# Altium footprint library Power.PcbLib: 9 footprints
Each footprint in its own frame and in the unit in brackets; x right, y up, seen from the top. Pads: shape width x height; smd on the part's side, far side on the other; paste and mask are expansions set on the pad; w line width, h text height; cw(c..) or ccw(c..) is an arc to the next point about the centre after c.
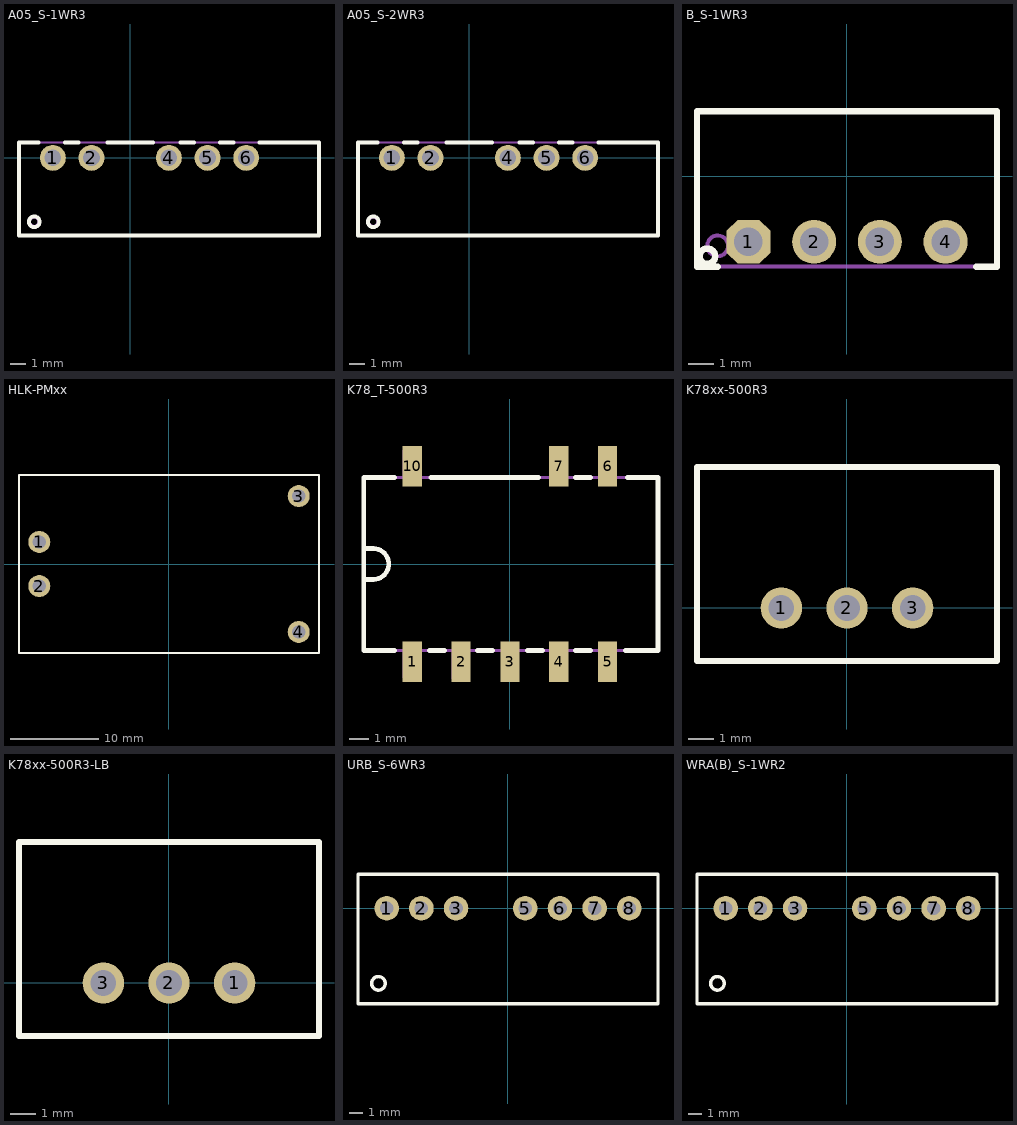
[diagram p0: the footprints below, top view; thin cyan lines are the x and y axes]

## A05_S-1WR3 [mm]
pads (5):
  round 1.7 hole 1.1: 1(-5.08,0) 2(-2.54,0) 4(2.54,0) 5(5.08,0) 6(7.62,0)
Top Overlay:
  circle w0.25: c-6.3,-4.2 r0.35
  lines w0.25: -6,1 -7.3,1 -7.3,-5.1 12.4,-5.1 12.4,1 8.5,1 ; -4.3,1 -3.4,1 ; -1.5,1 1.5,1 ; 3.305,1.004 4.205,1.004 ; 5.905,1.004 6.805,1.004
Top Assembly:
  circle w0.15: c-6.3,-4.2 r0.283
  lines w0.15: -7.3,-5.1 12.4,-5.1 12.4,1 -7.3,1 -7.3,-5.1
3D body "A05_S-1WR3.stp": height 10.16, standoff -4.1, extent -7.285,-5.08 12.365,0.92

## A05_S-2WR3 [mm]
pads (5):
  round 1.7 hole 1.1: 1(-5.08,0) 2(-2.54,0) 4(2.54,0) 5(5.08,0) 6(7.62,0)
Top Overlay:
  circle w0.25: c-6.3,-4.2 r0.35
  lines w0.25: -6,1 -7.3,1 -7.3,-5.1 12.4,-5.1 12.4,1 8.5,1 ; -4.3,1 -3.4,1 ; -1.5,1 1.5,1 ; 3.305,1.004 4.205,1.004 ; 5.905,1.004 6.805,1.004
Top Assembly:
  circle w0.15: c-6.3,-4.2 r0.283
  lines w0.15: -7.3,-5.1 12.4,-5.1 12.4,1 -7.3,1 -7.3,-5.1
3D body "A_S-2WR3.stp": height 10.16, standoff -4.1, extent -7.285,-5.08 12.365,0.92

## B_S-1WR3 [mm]
pads (4):
  oct 1.7x1.7 hole 1.1: 1(-3.81,-2.54)
  round 1.7 hole 1.1: 2(-1.27,-2.54) 3(1.27,-2.54) 4(3.81,-2.54)
Top Overlay:
  circle w0.25: c-5.4,-3.1 r0.3
  lines w0.25: -5,-3.5 -5.8,-3.5 -5.8,2.5 5.8,2.5 5.8,-3.5 5,-3.5
Top Assembly:
  circle w0.15: c-5,-2.7 r0.4
  lines w0.15: -5.8,-3.5 5.8,-3.5 5.8,2.5 -5.8,2.5 -5.8,-3.5
3D body "B_S-1WR3.stp": height 10.2, standoff -4.06, extent -5.8,-3.521 5.8,2.479

## HLK-PMxx [mm]
pads (4):
  round 2.5 hole 1.5: 1(-14.7,2.5) 2(-14.7,-2.5) 3(14.7,7.7) 4(14.7,-7.7)
Top Overlay:
  lines w0.25: -17,-10.1 17,-10.1 17,10.1 -17,10.1 -17,-10.1
Top Assembly:
  lines w0.15: -17,-10.1 17,-10.1 17,10.1 -17,10.1 -17,-10.1
3D body "HLK-PM01.STEP": height 15.2, standoff -4.9, extent -17,-10.1 17,10.1

## K78_T-500R3 [mm]
pads (8):
  rect 1x2.1 smd: 1(-5.08,-5.08) 2(-2.54,-5.08) 3(0,-5.08) 4(2.54,-5.08) 5(5.08,-5.08) 6(5.08,5.08) 7(2.54,5.08) 10(-5.08,5.08)
Top Overlay:
  lines w0.25: -7.6,-0.8 -7.1,-0.8 ccw(c-7.1,0) -7.1,0.8 -7.6,0.8 ; -6,-4.5 -7.6,-4.5 -7.6,4.5 -6,4.5 ; -4.2,-4.5 -3.4,-4.5 ; -4.1,4.5 1.5,4.5 ; -1.7,-4.5 -0.9,-4.5 ; 0.9,-4.5 1.7,-4.5 ; 3.4,-4.5 4.2,-4.5 ; 3.4,4.5 4.2,4.5 ; 6,-4.5 7.7,-4.5 7.7,4.5 6.1,4.5
Top Assembly:
  lines w0.15: -7.6,-0.8 -7.1,-0.8 ccw(c-7.1,0) -7.1,0.8 -7.6,0.8 ; -7.6,-4.5 -7.6,4.5 7.7,4.5 7.7,-4.5 -7.6,-4.5 ; -5.5,-5.9 -4.7,-5.9 -4.7,-4.5 -5.5,-4.5 -5.5,-5.9 ; -5.5,4.5 -4.7,4.5 -4.7,5.9 -5.5,5.9 -5.5,4.5 ; -2.961,-5.947 -2.161,-5.947 -2.161,-4.5 -2.961,-4.5 -2.961,-5.947 ; -0.4,-5.9 0.4,-5.9 0.4,-4.5 -0.4,-4.5 -0.4,-5.9 ; 2.1,-5.9 2.9,-5.9 2.9,-4.5 2.1,-4.5 2.1,-5.9 ; 2.1,4.5 2.9,4.5 2.9,5.9 2.1,5.9 2.1,4.5 ; 4.7,-5.9 5.5,-5.9 5.5,-4.5 4.7,-4.5 4.7,-5.9 ; 4.7,4.5 5.5,4.5 5.5,5.9 4.7,5.9 4.7,4.5
3D body "K78_T-500R3.stp": height 8.25, standoff 0, extent -7.62,-5.7 7.62,5.7

## K78xx-500R3 [mm]
pads (3):
  round 1.6 hole 1: 1(-2.54,0) 2(0,0) 3(2.54,0)
Top Overlay:
  lines w0.25: -5.8,-2.05 5.8,-2.05 5.8,5.45 -5.8,5.45 -5.8,-2.05
Top Assembly:
  lines w0.15: -5.8,-2.05 5.8,-2.05 5.8,5.45 -5.8,5.45 -5.8,-2.05
3D body "K78xx-500R3.stp": height 10.36, standoff -3.9, extent -5.804,-2.1 5.796,5.45

## K78xx-500R3-LB [mm]
pads (3):
  round 1.6 hole 1: 1(2.54,0) 2(0,0) 3(-2.54,0)
Top Overlay:
  lines w0.25: -5.8,-2.05 -5.8,5.45 5.8,5.45 5.8,-2.05 -5.8,-2.05
Top Assembly:
  lines w0.15: -5.8,-2.05 -5.8,5.45 5.8,5.45 5.8,-2.05 -5.8,-2.05
3D body "K78xx-500R3-LB.stp": height 8.61, standoff -4.1, extent -5.137,-0.762 5.137,4.228

## URB_S-6WR3 [mm]
pads (7):
  round 1.8 hole 1: 1(-8.89,0) 2(-6.35,0) 3(-3.81,0) 5(1.27,0) 6(3.81,0) 7(6.35,0) 8(8.89,0)
Top Overlay:
  circle w0.25: c-9.5,-5.5 r0.5
  lines w0.25: -11,-7 11,-7 11,2.5 -11,2.5 -11,-7
Top Assembly:
  circle w0.15: c-9.5,-5.5 r0.5
  lines w0.15: -11,-7 11,-7 11,2.5 -11,2.5 -11,-7
3D body "WRB_S-1WR2.stp": height 12.1, standoff -4, extent -11,-6.95 11,2.55

## WRA(B)_S-1WR2 [mm]
pads (7):
  round 1.8 hole 1: 1(-8.89,0) 2(-6.35,0) 3(-3.81,0) 5(1.27,0) 6(3.81,0) 7(6.35,0) 8(8.89,0)
Top Overlay:
  circle w0.25: c-9.5,-5.5 r0.5
  lines w0.25: -11,-7 11,-7 11,2.5 -11,2.5 -11,-7
Top Assembly:
  circle w0.15: c-9.5,-5.5 r0.5
  lines w0.15: -11,-7 11,-7 11,2.5 -11,2.5 -11,-7
3D body "WRB_S-1WR2.stp": height 12.1, standoff -4, extent -11,-6.95 11,2.55